# Altium schematic symbol library C0402C621J5GACTU.SchLib: 1 symbol
Pins are listed as number, name and electrical type; pins without a type are passive.

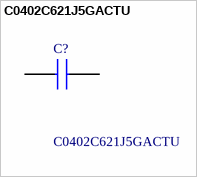
[diagram p0: symbol C0402C621J5GACTU]

## C0402C621J5GACTU
designator C?
SMD Comm C0G, Ceramic, 620 pF, 5%, 50 VDC, 125 VDC, 125C, -55C, C0G, SMD, MLCC, Ultra-Stable, Low Loss, Class I, 0.1 % , 100 GOhms, 1.06 mg, 0402, 1mm, 0.5mm, 0.5mm, 0.3mm, 0.3mm, 10000, 78  Weeks, 120; Manufacturer_Name: KEMET; Geometry.Height: 0.55mm; Mouser Part Number: 80-C0402C621J5G; Mouser Price/Stock: http://www.mouser.com/Search/ProductDetail.aspx?qs=GP7tGcbp1QRIekJfjnk3Vg%3d%3d; Manufacturer_Part_Number: C0402C621J5GACTU; Datasheet Link: https://componentsearchengine.com/Datasheets/1/C0402C621J5GACTU.pdf
footprint C0402C104J4RACTU
pins: 1, 2